# Altium schematic symbol library Capacitors Tantalum SMD.SchLib: 6 symbols
Pins are listed as number, name and electrical type; pins without a type are passive.

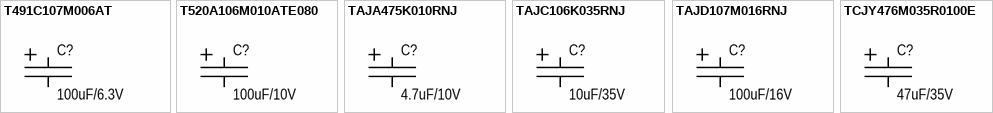
[diagram p0: symbols T491C107M006AT to TCJY476M035R0100E]

## T491C107M006AT
designator C?, comment 100uF/6.3V
CAPT 100uF 6.3V C 2312(6032); Manufacturer: KEMET; Part name: T491C107M006AT; Group: Discrete; Lifetime/Temp: 2000 Hrs/125°C; Tolerance: ±20%; Type: Molded; ESR: 900 mOhm; Component: Capacitor Tantalum; Voltage: 6.3V; Package: C 2312(6032); Capacitance: 100uF; Operating temperature: -55°C +125°C; Mounting type: Surface mount; Height: 2.80mm; Dimension: 6.00mm x 3.20mm
footprint CAPT6032N
pins: N, P

## T520A106M010ATE080
designator C?, comment 100uF/10V
CAPT 10uF 10V A 1206 (3216); Manufacturer: KEMET; Part name: T520A106M010ATE080; Lifetime/Temp: 2000 Hrs/105°C; Tolerance: ±20%; Type: Molded; ESR: 80 mOhm/100kHz; Group: Discrete; Capacitance: 100uF; Component: Capacitor Tantalum; Package: A 1206 (3216); Operating temperature: -55°C +125°C; Mounting type: Surface mount; Height: 1.80mm; Dimension: 3.20mm x 1.60mm; Voltage: 10V
footprint CAPT3216N
pins: N, P

## TAJA475K010RNJ
designator C?, comment 4.7uF/10V
CAPT 4.7uF 10V A 1206(3216); Manufacturer: AVX; Part name: TAJA475K010RNJ; Group: Discrete; Tolerance: ±10%; Type: Molded; ESR: 5 Ohm; Component: Capacitor Tantalum; Voltage: 10V; Package: A 1206(3216); Capacitance: 4.7uF; Operating temperature: -55°C +125°C; Mounting type: Surface mount; Height: 1.80mm; Dimension: 7.30mm x 4.30mm
footprint CAPT3216N
pins: N, P

## TAJC106K035RNJ
designator C?, comment 10uF/35V
CAPT 10uF 35V C 2312(6032); Manufacturer: AVX; Part name: TAJC106K035RNJ; Group: Discrete; Tolerance: ±10%; Type: Molded; ESR: 1.6 Ohm; Component: Capacitor Tantalum; Voltage: 35V; Package: C 2917(7343); Capacitance: 10uF; Operating temperature: -55°C +125°C; Mounting type: Surface mount; Height: 2.80mm; Dimension: 6.00mm x 3.20mm
footprint CAPT6032N
pins: N, P

## TAJD107M016RNJ
designator C?, comment 100uF/16V
CAPT 100uF 16V D 2917(7343); Manufacturer: AVX; Part name: TAJD107M016RNJ; Group: Discrete; Tolerance: ±20%; Type: Molded; ESR: 600 mOhm; Component: Capacitor Tantalum; Voltage: 16V; Package: D 2917(7343); Capacitance: 100uF; Operating temperature: -55°C +125°C; Mounting type: Surface mount; Height: 3.10mm; Dimension: 7.30mm x 4.30mm
footprint CAPT7343N
pins: N, P

## TCJY476M035R0100E
designator C?, comment 47uF/35V
CAPT 47uF 35V D 2917(7343); Manufacturer: KEMET; Part name: TCJY476M035R0100E; Group: Discrete; Lifetime/Temp: 2000 Hrs/105°C; Tolerance: ±20%; Type: Molded; ESR: 100 mOhm; Component: Capacitor Tantalum; Voltage: 35V; Package: D 2917(7343); Capacitance: 47uF; Operating temperature: -55°C +105°C; Mounting type: Surface mount; Height: 2.80mm; Dimension: 7.30mm x 4.30mm
footprint CAPT7343N
pins: N, P